# EAGLE library part TLC2262 (library LITTLEBITS140826)
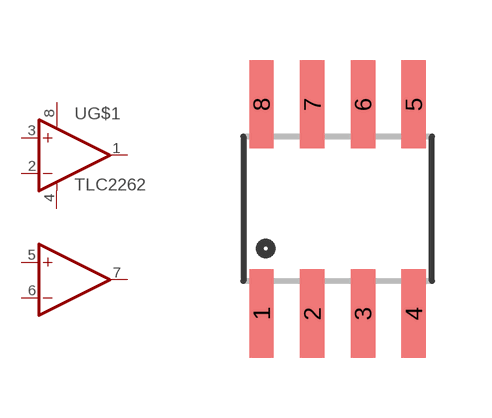
[diagram p41: symbol with the pads of SOIC8; footprint SOIC8]

Designator prefix -; gates G$1=OPAMP G$2=OPAMP_NOPWR

## TLC2262  [SOIC8]
1  G$1:OUT  out
2  G$1:-IN  in
3  G$1:+IN  in
4  G$1:V-  pwr
5  G$2:+IN  in
6  G$2:-IN  in
7  G$2:OUT  out
8  G$1:V+  pwr

## Footprint SOIC8 (pad centres in mm)
smd 0.61 x 2.21: 1 -1.905,-2.616; 2 -0.635,-2.616; 3 0.635,-2.616; 4 1.905,-2.616; 5 1.905,2.616; 6 0.635,2.616; 7 -0.635,2.616; 8 -1.905,2.616